# Altium footprint library STB-HAA20.PcbLib: 1 footprints
Each footprint in its own frame and in the unit in brackets; x right, y up, seen from the top. Pads: shape width x height; smd on the part's side, far side on the other; paste and mask are expansions set on the pad; w line width, h text height; cw(c..) or ccw(c..) is an arc to the next point about the centre after c.
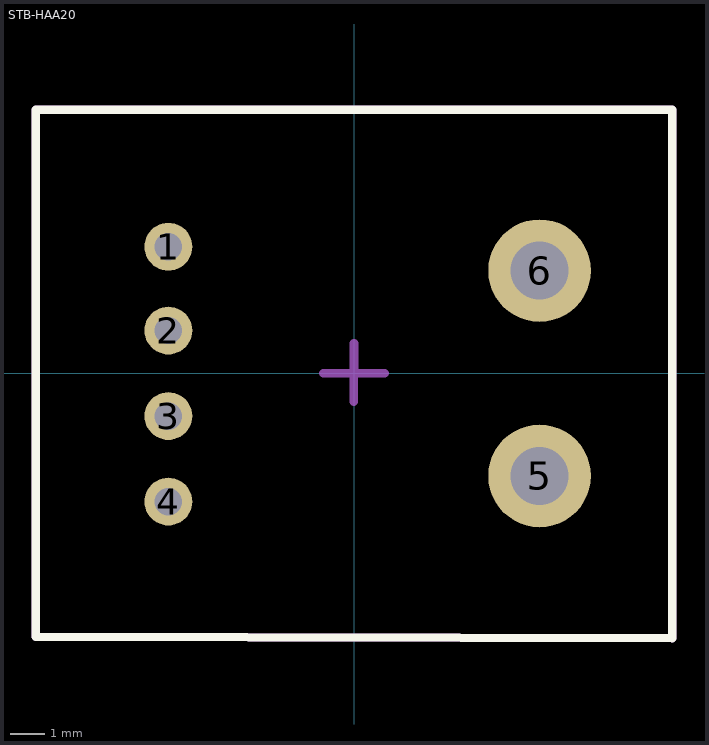
[diagram p0: the footprint, top view; thin cyan lines are the x and y axes]

## STB-HAA20 [mm]
pads (6):
  round 1.4 hole 0.8: 1(-5.425,3.7) 2(-5.425,1.25) 3(-5.425,-1.25) 4(-5.425,-3.75)
  round 3 hole 1.7: 5(5.425,-3) 6(5.425,3)
Top Overlay:
  lines w0.254: -9.3,-7.7 9.3,-7.741 9.3,7.7 -9.3,7.7 -9.3,-7.7
Top Assembly:
  lines w0.254: -9.3,-7.7 9.3,-7.741 9.3,7.7 -9.3,7.7 -9.3,-7.7
  text "'.Designator'" at -0.85,-0.375 h0.7
Top TopCourtyard/BotCourtyard (Mech15):
  lines w0.254: -0.893,0 0,0 ; -0.011,-0.827 -0.011,0.055 ; 0,0.882 0,0 ; 0.893,0 0,0
3D body: height 21, standoff 0, extent -9.3,-7.72 9.3,7.72